# Altium footprint library EC12S.PcbLib: 1 footprints
Each footprint in its own frame and in the unit in brackets; x right, y up, seen from the top. Pads: shape width x height; smd on the part's side, far side on the other; paste and mask are expansions set on the pad; w line width, h text height; cw(c..) or ccw(c..) is an arc to the next point about the centre after c.
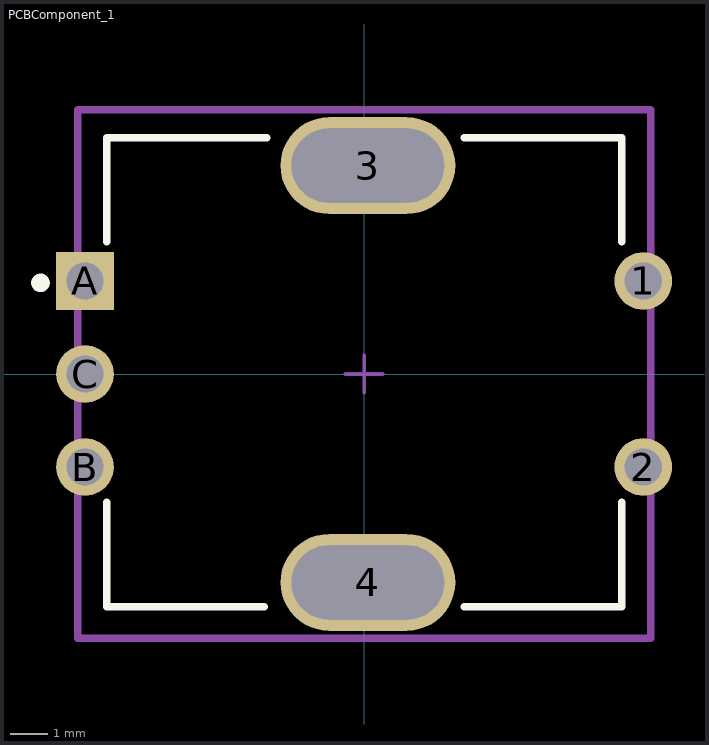
[diagram p0: the footprint, top view; thin cyan lines are the x and y axes]

## PCBComponent_1 [mm]
pads (7):
  round 1.55 hole 1 paste-1000 mask+0: 1(7.498,2.502) 2(7.498,-2.498) B(-7.502,-2.498) C(-7.502,0.002)
  rrect100% 4.7x2.6 hole 4.1 slot 2 at 90 deg paste-1000 mask+0: 3(0.098,5.602) 4(0.098,-5.598)
  rect 1.55x1.55 hole 1 paste-1000 mask+0: A(-7.502,2.502)
Top Overlay:
  circle w0.25: c-8.7,2.45 r0.125
  lines w0.2: -6.918,-3.448 -6.918,-6.248 -2.693,-6.248 ; -6.918,3.552 -6.918,6.352 -2.618,6.352 ; 2.689,-6.248 6.914,-6.248 6.914,-3.448 ; 2.689,6.352 6.914,6.352 6.914,3.552
Top Courtyard:
  lines w0.2: -7.702,-7.098 -7.702,7.102 7.698,7.102 7.698,-7.098 -7.702,-7.098
Top Component Center:
  lines w0.1: -0.504,0 0.496,0 ; -0.004,-0.5 -0.004,0.5
3D body "EC12S 24_24 14mm.STEP": height 19, standoff -3.59, extent -7.627,-7.072 7.623,7.102